# Altium footprint library 5HTP250-R.PcbLib: 1 footprints
Each footprint in its own frame and in the unit in brackets; x right, y up, seen from the top. Pads: shape width x height; smd on the part's side, far side on the other; paste and mask are expansions set on the pad; w line width, h text height; cw(c..) or ccw(c..) is an arc to the next point about the centre after c.
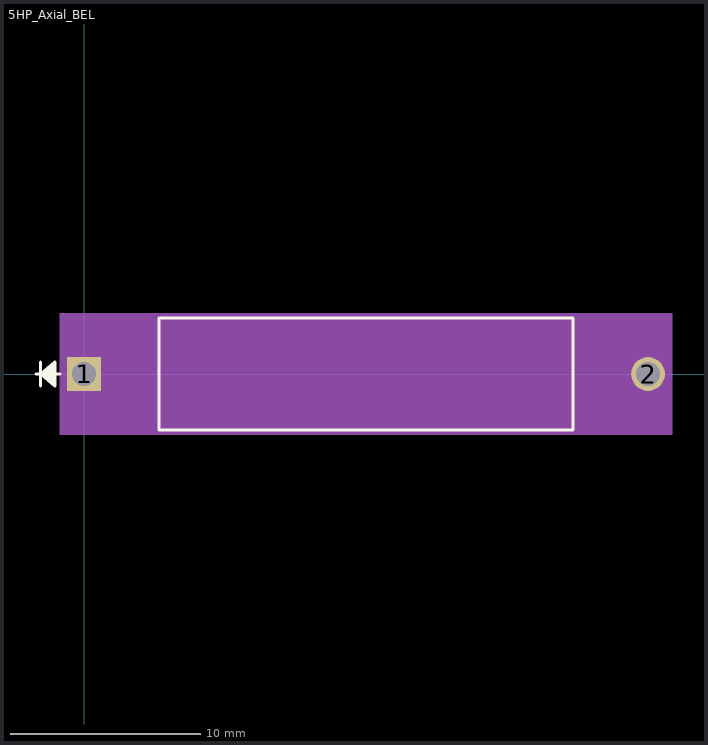
[diagram p0: the footprint, top view; thin cyan lines are the x and y axes]

## 5HP_Axial_BEL [mil]
pads (2):
  rect 70x70 hole 50 mask+0: 1(0,0)
  round 70 hole 50 mask+0: 2(1167,0)
Top Overlay:
  lines w6: -100,0 -50,0 ; -90,-25 -90,25 ; -60,-20 -90,0 ; -60,-15 -90,0 ; -60,-10 -90,0 ; -60,-5 -90,0 ; -60,5 -90,0 ; -60,10 -90,0 ; -60,15 -90,0 ; -60,20 -90,0 ; -90,0 -60,25 -60,-25 -90,0 ; 155,-115.5 1012,-115.5 1012,115.5 155,115.5 155,-115.5
Mechanical 5:
  region: 1217,-125.5 -50,-125.5 -50,125.5 1217,125.5
Mechanical 13:
  lines w1: -100,0 -50,0 ; -90,-25 -90,25 ; -60,-20 -90,0 ; -60,-15 -90,0 ; -60,-10 -90,0 ; -60,-5 -90,0 ; -60,5 -90,0 ; -60,10 -90,0 ; -60,15 -90,0 ; -60,20 -90,0 ; 0,0 160,0 ; 1007,0 1167,0 ; -90,0 -60,25 -60,-25 -90,0 ; 160,-110.5 1007,-110.5 1007,110.5 160,110.5 160,-110.5
Mechanical 15:
  region: 150,-45 -45,-45 -45,45 150,45 150,120.5 1017,120.5 1017,45 1212,45 1212,-45 1017,-45 1017,-120.5 150,-120.5
  lines w6: -45,-45 -45,45 150,45 150,120.5 1017,120.5 1017,45 1212,45 1212,-45 1017,-45 1017,-120.5 150,-120.5 150,-45 -45,-45
3D body: height 10, standoff 0, extent 0,0 10,10